# EAGLE library part HC-05 (library Micromouse 2020)
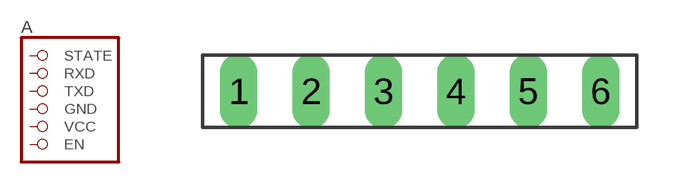
[diagram p8: symbol with the pads of HC-05; footprint HC-05]

Designator prefix A

## HC-05  [HC-05]
1  STATE  out
2  RXD  in
3  TXD  out
4  GND  pas
5  VCC  pwr
6  EN  in

## Footprint HC-05 (pad centres in mm)
drill 0.8 long: 1 -6.35,0; 2 -3.81,0; 3 -1.27,0; 4 1.27,0; 5 3.81,0; 6 6.35,0